# EAGLE library part DS1337 (library AWJLEagleLib)
Dallas DS1337 RTC
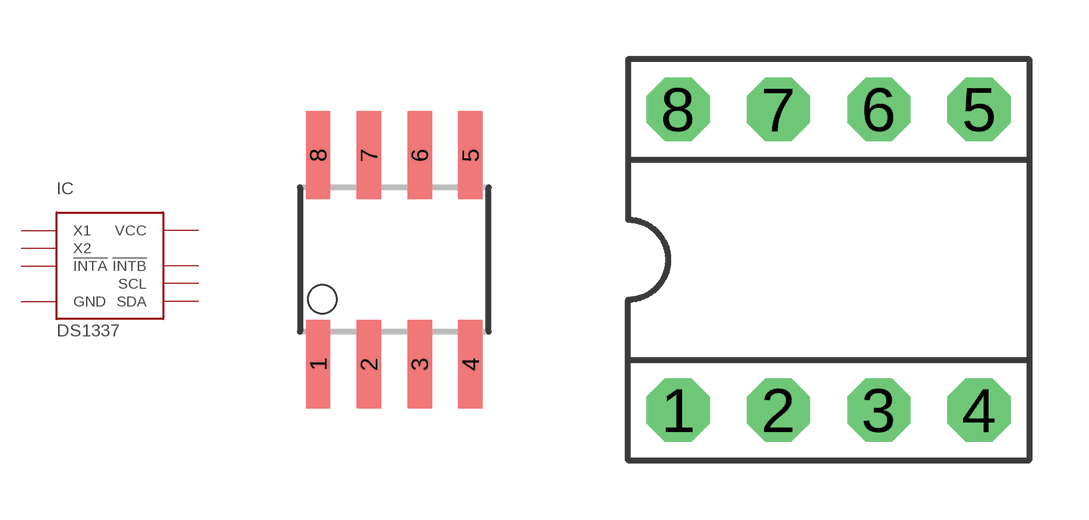
[diagram p7: symbol with the pads of SO08; footprints SO08, DIL08]

Designator prefix IC

## DS1337S  [SO08]
1  X1
2  X2
3  !INTA  out
4  GND  pwr
5  SDA  in
6  SCL  in
7  !INTB  out
8  VCC  pwr

## DS1337  [DIL08]
Pads as for SO08

## DS1337U  [MSOP08]
Pads as for SO08

## Footprint SO08 (pad centres in mm)
smd 0.61 x 2.21: 1 -1.905,-2.616; 2 -0.635,-2.616; 3 0.635,-2.616; 4 1.905,-2.616; 5 1.905,2.616; 6 0.635,2.616; 7 -0.635,2.616; 8 -1.905,2.616

## Footprint DIL08 (pad centres in mm)
drill 0.813 pad 1.6 octagon: 1 -3.81,-3.81; 2 -1.27,-3.81; 3 1.27,-3.81; 4 3.81,-3.81; 5 3.81,3.81; 6 1.27,3.81; 7 -1.27,3.81; 8 -3.81,3.81

## Footprint MSOP08 (pad centres in mm)
smd 0.3 x 1.2: 1 -0.976,-2.113; 2 -0.326,-2.113; 3 0.324,-2.113; 4 0.974,-2.113; 5 0.974,2.112; 6 0.324,2.112; 7 -0.326,2.112; 8 -0.976,2.112